# Altium footprint library Connectors.PcbLib: 2 footprints
Each footprint in its own frame and in the unit in brackets; x right, y up, seen from the top. Pads: shape width x height; smd on the part's side, far side on the other; paste and mask are expansions set on the pad; w line width, h text height; cw(c..) or ccw(c..) is an arc to the next point about the centre after c.
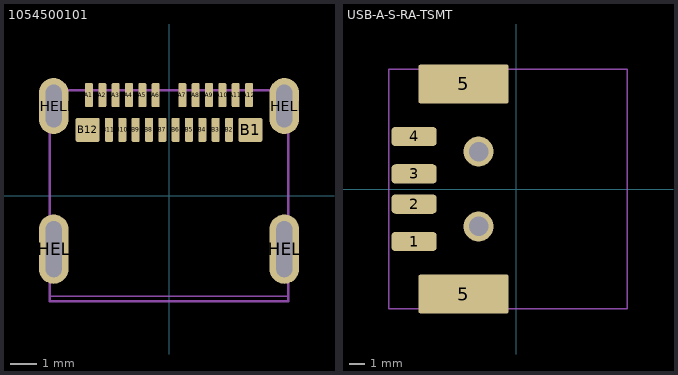
[diagram p0: the footprints below, top view; thin cyan lines are the x and y axes]

## 1054500101 [mm] "CONN RCP USB3.1 TYPEC 24P SMD RA"
pads (28):
  rrect30% 0.3x0.9 smd paste-0.03 mask+0.05: A1(-3,3.77) A2(-2.5,3.77) A3(-2,3.77) A4(-1.5,3.77) A5(-1,3.77) A6(-0.5,3.77) A7(0.5,3.77) A8(1,3.77) A9(1.5,3.77) A10(2,3.77) A11(2.5,3.77) A12(3,3.77) B2(2.25,2.47) B3(1.75,2.47) B4(1.25,2.47) B5(0.75,2.47) B6(0.25,2.47) B7(-0.25,2.47) B8(-0.75,2.47) B9(-1.25,2.47) B10(-1.75,2.47) B11(-2.25,2.47)
  rrect15% 0.9x0.9 smd paste-0.03 mask+0.05: B1(3.05,2.47) B12(-3.05,2.47)
  rrect100% 1.1x2.6 hole 0.6 slot 2.1 at 90 deg paste-0.05 mask+0.1: SHELL(-4.32,-2) SHELL(4.32,-2)
  rrect100% 1.1x2.1 hole 0.6 slot 1.6 at 90 deg paste-0.05 mask+0.1: SHELL(-4.32,3.36) SHELL(4.32,3.36)
Top Paste:
  region: 5.205,-1.24 5.205,-2.765 5.205,-2.88 5.117,-3.094 4.954,-3.257 4.74,-3.345 4.625,-3.345 4.12,-3.345 4.005,-3.345 3.791,-3.257 3.628,-3.094 3.54,-2.88 3.54,-2.765 3.54,-1.24 3.54,-1.125 3.628,-0.911 3.791,-0.748 4.005,-0.66 4.12,-0.66 4.625,-0.66 4.74,-0.66 4.954,-0.748 5.117,-0.911 5.205,-1.125
  region: -5.205,-2.76 -5.205,-1.235 -5.205,-1.12 -5.117,-0.906 -4.954,-0.743 -4.74,-0.655 -4.625,-0.655 -4.12,-0.655 -4.005,-0.655 -3.791,-0.743 -3.628,-0.906 -3.54,-1.12 -3.54,-1.235 -3.54,-2.76 -3.54,-2.875 -3.628,-3.089 -3.791,-3.252 -4.005,-3.34 -4.12,-3.34 -4.625,-3.34 -4.74,-3.34 -4.954,-3.252 -5.117,-3.089 -5.205,-2.875
  region: -4.905,2.85 -4.905,2.735 -4.817,2.521 -4.654,2.358 -4.44,2.27 -4.21,2.27 -3.996,2.358 -3.833,2.521 -3.745,2.735 -3.745,2.85 -3.745,3.875 -3.745,3.99 -3.833,4.204 -3.996,4.367 -4.21,4.455 -4.44,4.455 -4.654,4.367 -4.817,4.204 -4.905,3.99 -4.905,3.875
  region: 3.735,2.85 3.735,2.735 3.823,2.521 3.986,2.358 4.2,2.27 4.43,2.27 4.644,2.358 4.807,2.521 4.895,2.735 4.895,2.85 4.895,3.875 4.895,3.99 4.807,4.204 4.644,4.367 4.43,4.455 4.2,4.455 3.986,4.367 3.823,4.204 3.735,3.99 3.735,3.875
  lines w0.1: -5.205,-2.76 ccw(c-4.625,-2.76) -4.625,-3.34 -4.12,-3.34 ccw(c-4.12,-2.76) -3.54,-2.76 -3.54,-1.235 ccw(c-4.12,-1.235) -4.12,-0.655 -4.625,-0.655 ccw(c-4.625,-1.235) -5.205,-1.235 -5.205,-2.76 ; -4.905,2.85 ccw(c-4.325,2.85) -3.745,2.85 -3.745,3.875 ccw(c-4.325,3.875) -4.905,3.875 -4.905,2.85 ; 3.54,-2.765 ccw(c4.12,-2.765) 4.12,-3.345 4.625,-3.345 ccw(c4.625,-2.765) 5.205,-2.765 5.205,-1.24 ccw(c4.625,-1.24) 4.625,-0.66 4.12,-0.66 ccw(c4.12,-1.24) 3.54,-1.24 3.54,-2.765 ; 3.735,2.85 ccw(c4.315,2.85) 4.895,2.85 4.895,3.875 ccw(c4.315,3.875) 3.735,3.875 3.735,2.85
Assembly:
  lines w0.05: -4.47,-3.77 4.47,-3.77
  lines w0.1: -4.47,-3.95 -4.47,3.95 4.47,3.95 4.47,-3.95 -4.47,-3.95
  text ".Designator" at -3.5,0 h1.1
3D body "1054500101.stp": height 3.18, standoff -0.78, extent -4.47,-3.95 4.47,3.95

## USB-A-S-RA-TSMT [mm] "USB A 2.0, R/A, TRUE SMT, RECEPT"
pads (8):
  rrect40% 3x1.3 smd paste-0.08 mask+0.092: 1(-6.8,-3.5) 2(-6.8,-1) 3(-6.8,1) 4(-6.8,3.5)
  rrect10% 6x2.6 smd paste-0.4: 5(-3.5,-7) 5(-3.5,7)
  round 2 hole 1.3 paste-99: ""(-2.5,-2.5) ""(-2.5,2.5)
Assembly:
  lines w0.1: -8.5,-8 7.425,-8 7.425,8 -8.5,8 -8.5,-8
  text ".Designator" at -3.5,0 h1.1
3D body "CUI_DEVICES_UJ2-AH-1-SMT.step": height 7.6, standoff -0.8, extent -7.375,-7.95 7.425,7.95